# Altium footprint library SnapEDApcb.PcbLib: 1 footprints
Each footprint in its own frame and in the unit in brackets; x right, y up, seen from the top. Pads: shape width x height; smd on the part's side, far side on the other; paste and mask are expansions set on the pad; w line width, h text height; cw(c..) or ccw(c..) is an arc to the next point about the centre after c.
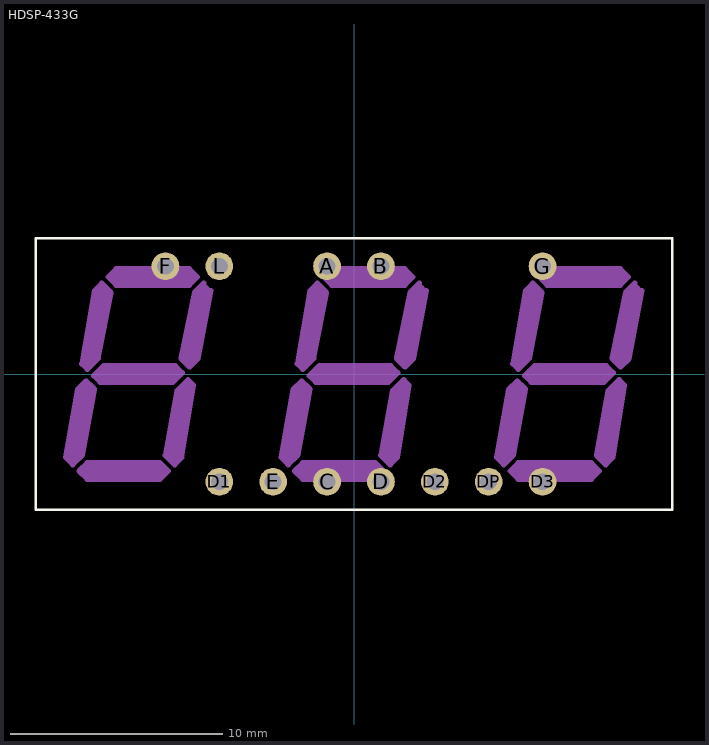
[diagram p0: the footprint, top view; thin cyan lines are the x and y axes]

## HDSP-433G [mm]
pads (12):
  round 1.308 hole 0.8: A(-1.27,5.08) B(1.27,5.08) C(-1.27,-5.08) D(1.27,-5.08) D1(-6.35,-5.08) D2(3.81,-5.08) D3(8.89,-5.08) DP(6.35,-5.08) E(-3.81,-5.08) F(-8.89,5.08) G(8.89,5.08) L(-6.35,5.08)
Top Overlay:
  lines w0.127: -15,-6.4 15,-6.4 15,6.4 -15,6.4 -15,-6.4
Mechanical 13:
  lines w0.254: -7.087,4.269 -7.519,3.837 -8.153,0.737 -7.747,0.33 -7.366,0.711 -6.757,3.939 ; 3.073,4.269 2.641,3.837 2.007,0.737 2.413,0.33 2.794,0.711 3.403,3.939 ; 13.233,4.269 12.801,3.837 12.167,0.737 12.573,0.33 12.954,0.711 13.563,3.939 ; -13.589,-3.939 -13.03,-0.737 -12.624,-0.33 -12.243,-0.711 -12.802,-3.812 -13.259,-4.269 -13.589,-3.939 ; -12.954,-4.574 -12.573,-4.193 -9.144,-4.193 -8.763,-4.574 -9.144,-4.955 -12.573,-4.955 -12.954,-4.574 ; -12.827,0.483 -12.573,0.229 -12.065,0.737 -11.456,3.837 -11.888,4.269 -12.218,3.939 -12.827,0.483 ; -12.268,-0.076 -11.811,0.381 -8.433,0.381 -8.103,0.051 -8.534,-0.381 -11.963,-0.381 -12.268,-0.076 ; -11.583,4.574 -11.202,4.193 -7.773,4.193 -7.392,4.574 -7.773,4.955 -11.202,4.955 -11.583,4.574 ; -8.89,-3.837 -8.331,-0.787 -7.823,-0.279 -7.569,-0.533 -8.128,-3.939 -8.459,-4.269 -8.89,-3.837 ; -3.429,-3.939 -2.87,-0.737 -2.464,-0.33 -2.083,-0.711 -2.642,-3.812 -3.099,-4.269 -3.429,-3.939 ; -2.794,-4.574 -2.413,-4.193 1.016,-4.193 1.397,-4.574 1.016,-4.955 -2.413,-4.955 -2.794,-4.574 ; -2.667,0.483 -2.413,0.229 -1.905,0.737 -1.296,3.837 -1.728,4.269 -2.058,3.939 -2.667,0.483 ; -2.108,-0.076 -1.651,0.381 1.727,0.381 2.057,0.051 1.626,-0.381 -1.803,-0.381 -2.108,-0.076 ; -1.423,4.574 -1.042,4.193 2.387,4.193 2.768,4.574 2.387,4.955 -1.042,4.955 -1.423,4.574 ; 1.27,-3.837 1.829,-0.787 2.337,-0.279 2.591,-0.533 2.032,-3.939 1.701,-4.269 1.27,-3.837 ; 6.731,-3.939 7.29,-0.737 7.696,-0.33 8.077,-0.711 7.518,-3.812 7.061,-4.269 6.731,-3.939 ; 7.366,-4.574 7.747,-4.193 11.176,-4.193 11.557,-4.574 11.176,-4.955 7.747,-4.955 7.366,-4.574 ; 7.493,0.483 7.747,0.229 8.255,0.737 8.864,3.837 8.432,4.269 8.102,3.939 7.493,0.483 ; 8.052,-0.076 8.509,0.381 11.887,0.381 12.217,0.051 11.786,-0.381 8.357,-0.381 8.052,-0.076 ; 8.737,4.574 9.118,4.193 12.547,4.193 12.928,4.574 12.547,4.955 9.118,4.955 8.737,4.574 ; 11.43,-3.837 11.989,-0.787 12.497,-0.279 12.751,-0.533 12.192,-3.939 11.861,-4.269 11.43,-3.837
  lines w0.61: -13.183,-3.812 -12.573,-0.635 ; -12.548,-4.574 -9.119,-4.574 ; -12.471,0.66 -11.838,3.837 ; -11.938,0 -8.509,0 ; -11.151,4.574 -7.722,4.574 ; -8.484,-3.812 -7.874,-0.635 ; -7.747,0.762 -7.087,3.939 ; -3.023,-3.812 -2.413,-0.635 ; -2.388,-4.574 1.041,-4.574 ; -2.311,0.66 -1.678,3.837 ; -1.778,0 1.651,0 ; -0.991,4.574 2.438,4.574 ; 1.676,-3.812 2.286,-0.635 ; 2.413,0.762 3.073,3.939 ; 7.137,-3.812 7.747,-0.635 ; 7.772,-4.574 11.201,-4.574 ; 7.849,0.66 8.482,3.837 ; 8.382,0 11.811,0 ; 9.169,4.574 12.598,4.574 ; 11.836,-3.812 12.446,-0.635 ; 12.573,0.762 13.233,3.939